# Altium footprint library PCB - LEADED - TO - IXYS TO-264 IXFK VERT.PcbLib: 1 footprints
Each footprint in its own frame and in the unit in brackets; x right, y up, seen from the top. Pads: shape width x height; smd on the part's side, far side on the other; paste and mask are expansions set on the pad; w line width, h text height; cw(c..) or ccw(c..) is an arc to the next point about the centre after c.
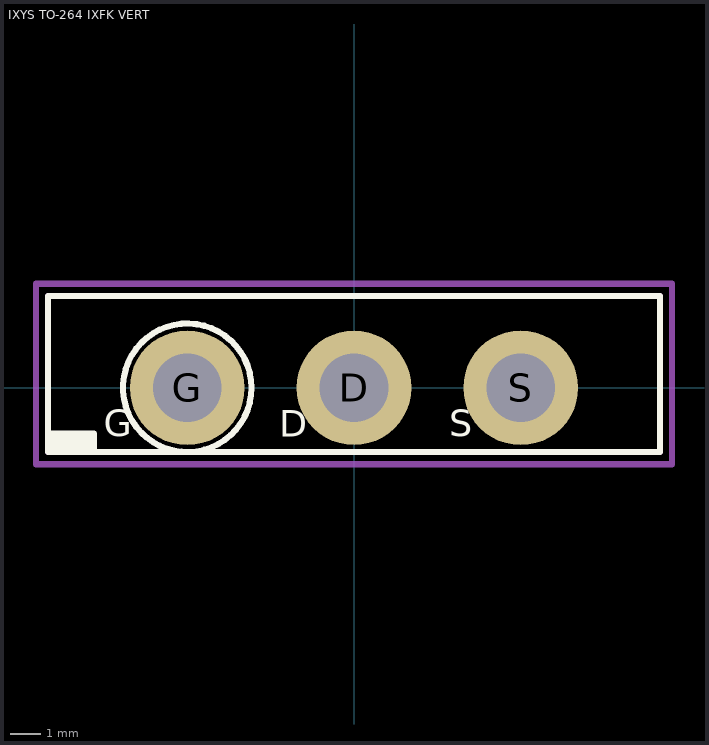
[diagram p0: the footprint, top view; thin cyan lines are the x and y axes]

## IXYS TO-264 IXFK VERT [mm] "IXYS TO-264 IXFK Vetical"
height 28.75
pads (3):
  round 3.75 hole 2.25: D(0,0) G(-5.45,0) S(5.45,0)
Top Overlay:
  circle w0.2: c-5.45,0 r2.101
  rectangle: -10,-2.1 -8.5,-1.5
  lines w0.2: -10,-1.5 -8.5,-1.5 -8.5,-2.1 ; -10,-2.1 -10,3 10,3 10,-2.1 -10,-2.1
  text "G" at -8.183,-1.884 h1.5
  text "D" at -2.443,-1.9 h1.5
  text "S" at 3.12,-1.884 h1.5
Top Assembly:
  lines w0.2: -1,0 1,0 ; 0,-1 0,1 ; -10,-2.1 -10,3 10,3 10,-2.1 -10,-2.1
Top Courtyard (Mech15):
  lines w0.2: -10.4,-2.5 10.4,-2.5 10.4,3.4 -10.4,3.4 -10.4,-2.5
3D body "IXYS TO-264 IXFK.step": height 28.75, standoff -3.5, extent -9.98,-2.115 9.98,3.015